# Altium schematic symbol library Jumper 3.SchLib: 1 symbol
Pins are listed as number, name and electrical type; pins without a type are passive.

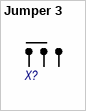
[diagram p0: symbol Jumper 3]

## Jumper 3
designator X?  (value not drawn)
Jumper, 3-Pin, Dual row; Потребление, Вт: 0,0; Наименование: Jumper 3-pin; Назначение: Jumper, 3-Pin, Dual row
footprint PLS-3 (2.54mm PIN HEADER R/A)
footprint PLS2-3
pins: 1, 2, 3